# EAGLE library part 4DSCH (library dubec)
Array of 4 independent Schottky diodes
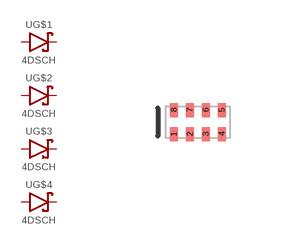
[diagram p22: symbol with the pads of 8-HMD; footprint 8-HMD]

Designator prefix -; gates G$1=DIODE_SCHOTTKY G$2=DIODE_SCHOTTKY G$3=DIODE_SCHOTTKY G$4=DIODE_SCHOTTKY

## 4DSCH30V_0A1 (DIGIKEY_PART_#: RB521ZS8A30TE61CT-ND; EPK: 212.37; MANUFACTURER: Rohm Semiconductor; MFG_PART_#: RB521ZS8A30TE61)  [8-HMD]
1  G$1:A  pas
2  G$2:A  pas
3  G$3:A  pas
4  G$4:A  pas
5  G$4:C  pas
6  G$3:C  pas
7  G$2:C  pas
8  G$1:C  pas

## Footprint 8-HMD (pad centres in mm)
smd 0.2 x 0.35: 1 -0.6,-0.3; 2 -0.2,-0.3; 3 0.2,-0.3; 4 0.6,-0.3; 5 0.6,0.3; 6 0.2,0.3; 7 -0.2,0.3; 8 -0.6,0.3